# Altium schematic symbol library XINGLIGHT_XL-5050RGBC-WS2812B-S.SchLib: 1 symbol
Pins are listed as number, name and electrical type; pins without a type are passive.

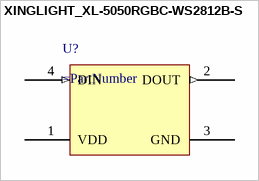
[diagram p0: symbol XINGLIGHT_XL-5050RGBC-WS2812B-S]

## XINGLIGHT_XL-5050RGBC-WS2812B-S
designator U?
pins: 1 VDD, 2 DOUT (out), 3 GND, 4 DIN (in)